# EAGLE library part NCM6S1205C (library RescueRunner)
Isolated DC/DC Converters 6W 9-36V 5.2kVDC 5V 1.2A Source: Datasheet <https://componentsearchengine.com/Datasheets/1/NCM6S1205C.pdf>
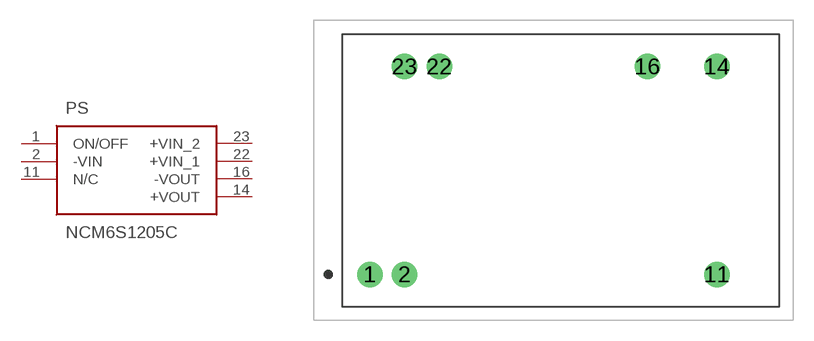
[diagram p12: symbol with the pads of NCM6S1205C; footprint NCM6S1205C]

Designator prefix PS

## NCM6S1205C (DESCRIPTION: Isolated DC/DC Converters 6W 9-36V 5.2kVDC 5V 1.2A; HEIGHT: 11.25mm; MANUFACTURER_NAME: Murata Electronics; MANUFACTURER_PART_NUMBER: NCM6S1205C; MOUSER_PART_NUMBER: 580-NCM6S1205C; MOUSER_PRICE-STOCK: https://www.mouser.com/Search/Refine.aspx?Keyword=580-NCM6S1205C)  [NCM6S1205C]
1  ON/OFF
2  -VIN
11  N/C  nc
14  +VOUT
16  -VOUT
22  +VIN_1
23  +VIN_2

## Footprint NCM6S1205C (pad centres in mm)
NCM6S1205C-1
drill 1.25 pad 1.875: 1 0,0; 2 2.54,0; 11 25.4,0; 14 25.4,15.24; 16 20.32,15.24; 22 5.08,15.24; 23 2.54,15.24